# Altium footprint library 40-TQFN.PcbLib: 3 footprints
Each footprint in its own frame and in the unit in brackets; x right, y up, seen from the top. Pads: shape width x height; smd on the part's side, far side on the other; paste and mask are expansions set on the pad; w line width, h text height; cw(c..) or ccw(c..) is an arc to the next point about the centre after c.
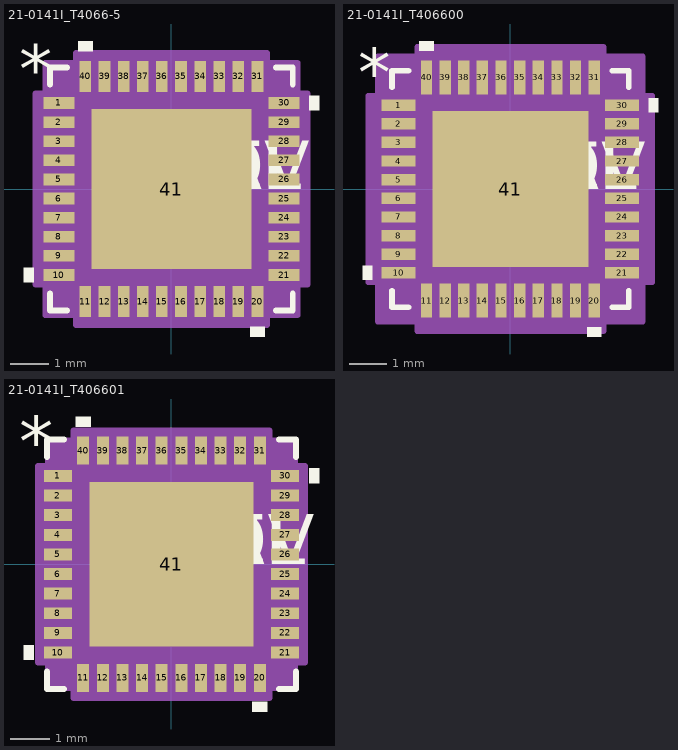
[diagram p0: the footprints below, top view; thin cyan lines are the x and y axes]

## 21-0141I_T4066-5 [mil]
pads (41):
  rect 32x12 smd: 1(-116,88.58) 2(-116,68.9) 3(-116,49.21) 4(-116,29.53) 5(-116,9.84) 6(-116,-9.84) 7(-116,-29.53) 8(-116,-49.21) 9(-116,-68.9) 10(-116,-88.58) 21(116,-88.58) 22(116,-68.9) 23(116,-49.21) 24(116,-29.53) 25(116,-9.84) 26(116,9.84) 27(116,29.53) 28(116,49.21) 29(116,68.9) 30(116,88.58)
  rect 12x32 smd: 11(-88.58,-116) 12(-68.9,-116) 13(-49.21,-116) 14(-29.53,-116) 15(-9.84,-116) 16(9.84,-116) 17(29.53,-116) 18(49.21,-116) 19(68.9,-116) 20(88.58,-116) 31(88.58,116) 32(68.9,116) 33(49.21,116) 34(29.53,116) 35(9.84,116) 36(-9.84,116) 37(-29.53,116) 38(-49.21,116) 39(-68.9,116) 40(-88.58,116)
  rect 165x165 smd paste-82: 41(0,0)
Top Overlay:
  region: -142,-81.08 -152,-81.08 -152,-96.08 -142,-96.08
  region: 96.08,-142 81.08,-142 81.08,-152 96.08,-152
  region: 142,96.08 152,96.08 152,81.08 142,81.08
  region: -81.08,142 -96.08,142 -96.08,152 -81.08,152
  lines w6: -125,-107.68 -125,-125 -107.68,-125 ; -125,107.68 -125,125 -107.68,125 ; 107.68,-125 125,-125 125,-107.68 ; 107.68,125 125,125 125,107.68
  text "*" at -157,98.43 h50
  text "PN" at 0,0 h50
  text "DEV" at 0,0 h50
  text "VAL" at 0,0 h50
  text "TOL" at 0,0 h50
Top Paste:
  region: -31.44,78.56 -78.56,78.56 -78.56,31.44 -31.44,31.44
  region: -31.44,23.56 -78.56,23.56 -78.56,-23.56 -31.44,-23.56
  region: -31.44,-31.44 -78.56,-31.44 -78.56,-78.56 -31.44,-78.56
  region: 23.56,78.56 -23.56,78.56 -23.56,31.44 23.56,31.44
  region: 23.56,23.56 -23.56,23.56 -23.56,-23.56 23.56,-23.56
  region: 23.56,-31.44 -23.56,-31.44 -23.56,-78.56 23.56,-78.56
  region: 78.56,78.56 31.44,78.56 31.44,31.44 78.56,31.44
  region: 78.56,23.56 31.44,23.56 31.44,-23.56 78.56,-23.56
  region: 78.56,-31.44 31.44,-31.44 31.44,-78.56 78.56,-78.56
Mechanical 13:
  text "*" at -100,98.43 h50
  text "RefDes2" at 0,0 h50
Mechanical 15:
  region: -98.43,-130 -130,-130 -130,-98.43 -140,-98.43 -140,98.43 -130,98.43 -130,130 -98.43,130 -98.43,140 98.43,140 98.43,130 130,130 130,98.43 140,98.43 140,-98.43 130,-98.43 130,-130 98.43,-130 98.43,-140 -98.43,-140
  lines w6: -140,-98.43 -130,-98.43 -130,-130 -98.43,-130 -98.43,-140 98.43,-140 98.43,-130 130,-130 130,-98.43 140,-98.43 140,98.43 130,98.43 130,130 98.43,130 98.43,140 -98.43,140 -98.43,130 -130,130 -130,98.43 -140,98.43 -140,-98.43
3D body: height 10, standoff 0, extent 0,0 10,10

## 21-0141I_T406600 [mil]
pads (41):
  rect 36x12 smd: 1(-118,88.58) 2(-118,68.9) 3(-118,49.21) 4(-118,29.53) 5(-118,9.84) 6(-118,-9.84) 7(-118,-29.53) 8(-118,-49.21) 9(-118,-68.9) 10(-118,-88.58) 21(118,-88.58) 22(118,-68.9) 23(118,-49.21) 24(118,-29.53) 25(118,-9.84) 26(118,9.84) 27(118,29.53) 28(118,49.21) 29(118,68.9) 30(118,88.58)
  rect 12x36 smd: 11(-88.58,-118) 12(-68.9,-118) 13(-49.21,-118) 14(-29.53,-118) 15(-9.84,-118) 16(9.84,-118) 17(29.53,-118) 18(49.21,-118) 19(68.9,-118) 20(88.58,-118) 31(88.58,118) 32(68.9,118) 33(49.21,118) 34(29.53,118) 35(9.84,118) 36(-9.84,118) 37(-29.53,118) 38(-49.21,118) 39(-68.9,118) 40(-88.58,118)
  rect 165x165 smd paste-82: 41(0,0)
Top Overlay:
  region: -81.08,146 -96.08,146 -96.08,156 -81.08,156
  region: 146,96.08 156,96.08 156,81.08 146,81.08
  region: 96.08,-146 81.08,-146 81.08,-156 96.08,-156
  region: -146,-81.08 -156,-81.08 -156,-96.08 -146,-96.08
  lines w6: -125,-107.68 -125,-125 -107.68,-125 ; -125,107.68 -125,125 -107.68,125 ; 107.68,-125 125,-125 125,-107.68 ; 107.68,125 125,125 125,107.68
  text "TOL" at 0,0 h50
  text "VAL" at 0,0 h50
  text "DEV" at 0,0 h50
  text "PN" at 0,0 h50
  text "*" at -161,98.43 h50
Top Paste:
  region: 78.56,-31.44 31.44,-31.44 31.44,-78.56 78.56,-78.56
  region: 78.56,23.56 31.44,23.56 31.44,-23.56 78.56,-23.56
  region: 78.56,78.56 31.44,78.56 31.44,31.44 78.56,31.44
  region: 23.56,-31.44 -23.56,-31.44 -23.56,-78.56 23.56,-78.56
  region: 23.56,23.56 -23.56,23.56 -23.56,-23.56 23.56,-23.56
  region: 23.56,78.56 -23.56,78.56 -23.56,31.44 23.56,31.44
  region: -31.44,-31.44 -78.56,-31.44 -78.56,-78.56 -31.44,-78.56
  region: -31.44,23.56 -78.56,23.56 -78.56,-23.56 -31.44,-23.56
  region: -31.44,78.56 -78.56,78.56 -78.56,31.44 -31.44,31.44
Mechanical 13:
  text "RefDes2" at 0,0 h50
  text "*" at -100,98.43 h50
Mechanical 15:
  region: -98.43,-140 -140,-140 -140,-98.43 -150,-98.43 -150,98.43 -140,98.43 -140,140 -98.43,140 -98.43,150 98.43,150 98.43,140 140,140 140,98.43 150,98.43 150,-98.43 140,-98.43 140,-140 98.43,-140 98.43,-150 -98.43,-150
  lines w6: -150,-98.43 -150,98.43 -140,98.43 -140,140 -98.43,140 -98.43,150 98.43,150 98.43,140 140,140 140,98.43 150,98.43 150,-98.43 140,-98.43 140,-140 98.43,-140 98.43,-150 -98.43,-150 -98.43,-140 -140,-140 -140,-98.43 -150,-98.43
3D body: height 10, standoff 0, extent 0,0 10,10

## 21-0141I_T406601 [mil]
pads (41):
  rect 28x12 smd: 1(-114,88.58) 2(-114,68.9) 3(-114,49.21) 4(-114,29.53) 5(-114,9.84) 6(-114,-9.84) 7(-114,-29.53) 8(-114,-49.21) 9(-114,-68.9) 10(-114,-88.58) 21(114,-88.58) 22(114,-68.9) 23(114,-49.21) 24(114,-29.53) 25(114,-9.84) 26(114,9.84) 27(114,29.53) 28(114,49.21) 29(114,68.9) 30(114,88.58)
  rect 12x28 smd: 11(-88.58,-114) 12(-68.9,-114) 13(-49.21,-114) 14(-29.53,-114) 15(-9.84,-114) 16(9.84,-114) 17(29.53,-114) 18(49.21,-114) 19(68.9,-114) 20(88.58,-114) 31(88.58,114) 32(68.9,114) 33(49.21,114) 34(29.53,114) 35(9.84,114) 36(-9.84,114) 37(-29.53,114) 38(-49.21,114) 39(-68.9,114) 40(-88.58,114)
  rect 165x165 smd paste-82: 41(0,0)
Top Overlay:
  region: -81.08,138 -96.08,138 -96.08,148 -81.08,148
  region: 138,96.08 148,96.08 148,81.08 138,81.08
  region: 96.08,-138 81.08,-138 81.08,-148 96.08,-148
  region: -138,-81.08 -148,-81.08 -148,-96.08 -138,-96.08
  lines w6: -125,-107.68 -125,-125 -107.68,-125 ; -125,107.68 -125,125 -107.68,125 ; 107.68,-125 125,-125 125,-107.68 ; 107.68,125 125,125 125,107.68
  text "TOL" at 0,0 h50
  text "VAL" at 0,0 h50
  text "DEV" at 0,0 h50
  text "PN" at 0,0 h50
  text "*" at -153,98.43 h50
Top Paste:
  region: 78.56,-31.44 31.44,-31.44 31.44,-78.56 78.56,-78.56
  region: 78.56,23.56 31.44,23.56 31.44,-23.56 78.56,-23.56
  region: 78.56,78.56 31.44,78.56 31.44,31.44 78.56,31.44
  region: 23.56,-31.44 -23.56,-31.44 -23.56,-78.56 23.56,-78.56
  region: 23.56,23.56 -23.56,23.56 -23.56,-23.56 23.56,-23.56
  region: 23.56,78.56 -23.56,78.56 -23.56,31.44 23.56,31.44
  region: -31.44,-31.44 -78.56,-31.44 -78.56,-78.56 -31.44,-78.56
  region: -31.44,23.56 -78.56,23.56 -78.56,-23.56 -31.44,-23.56
  region: -31.44,78.56 -78.56,78.56 -78.56,31.44 -31.44,31.44
Mechanical 13:
  text "RefDes2" at 0,0 h50
  text "*" at -100,98.43 h50
Mechanical 15:
  region: -98.43,-124 -124,-124 -124,-98.43 -134,-98.43 -134,98.43 -124,98.43 -124,124 -98.43,124 -98.43,134 98.43,134 98.43,124 124,124 124,98.43 134,98.43 134,-98.43 124,-98.43 124,-124 98.43,-124 98.43,-134 -98.43,-134
  lines w6: -134,-98.43 -134,98.43 -124,98.43 -124,124 -98.43,124 -98.43,134 98.43,134 98.43,124 124,124 124,98.43 134,98.43 134,-98.43 124,-98.43 124,-124 98.43,-124 98.43,-134 -98.43,-134 -98.43,-124 -124,-124 -124,-98.43 -134,-98.43
3D body: height 10, standoff 0, extent 0,0 10,10